# Altium schematic symbol library CN_PWR_3P.SchLib: 1 symbol
Pins are listed as number, name and electrical type; pins without a type are passive.

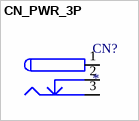
[diagram p0: symbol CN_PWR_3P]

## CN_PWR_3P
designator CN?
pins: 1 (power), 2 (power), 3 (power)